# Altium schematic symbol library Capacitor_0805_5_percent.SchLib: 16 symbols
Pins are listed as number, name and electrical type; pins without a type are passive.

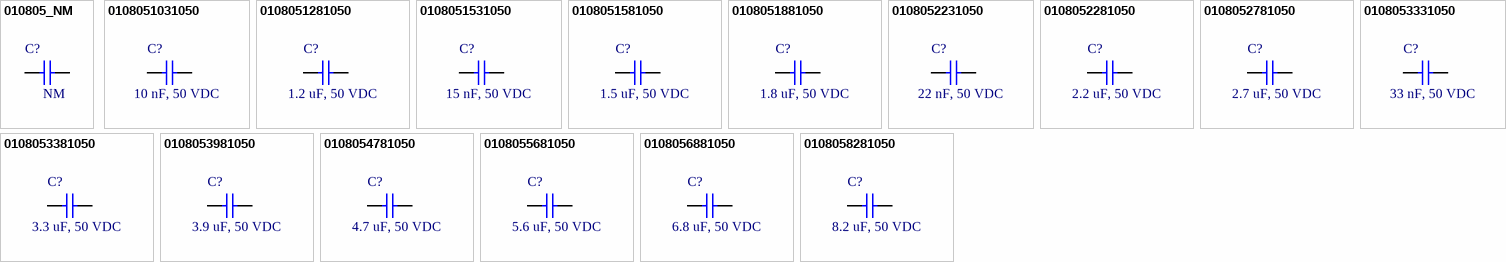
[diagram p0: symbols 010805_NM to 0108058281050]

## 010805_NM
designator C?, comment NM
CAP, size 0805, NM, N/A; Packaging: Tape and Reel; Capacitance: N/A; Supplier 1: Mouser; Supplier 1 Part Number: N/A; Supplier 1 URL: N/A; Supplier 2: Digi-Key; Supplier 2 Part Number: N/A; Supplier 2 URL: N/A; Supplier 3: thegioiic; Supplier 3 Part Number: N/A; Supplier 3 URL: N/A; Tolerance: N/A; Voltage Rating DC: N/A; Value: NM; Manufacturer: N/A; Manufacturer Part Number: N/A; ComponentLink1Description: Datasheet; ComponentLink1URL: N/A; Mount: SMD/SMT; Operating Temperature Max: + 85 C; Operating Temperature Min: - 40 C; Package / Case: 0805; LCSC Part #: N/A
footprint CAP_0805
pins: 1, 2

## 0108051031050
designator C?, comment 10 nF, 50 VDC
CAP, size 0805, 10 nF, 50 VDC, 5%; Manufacturer: TDK; Manufacturer Part Number: CGA4C2C0G1H103J060AA; Capacitance: 10 nF; Tolerance: +/-5%; Voltage Rating DC: 50 VDC; Value: 10 nF; Packaging: Tape and Reel; Supplier 1: Mouser; Supplier 1 Part Number: 810-CGA4C2C0G1H103J; Supplier 1 URL: https://www.mouser.vn/ProductDetail/TDK/CGA4C2C0G1H103J060AA?qs=FxQuwy19cyC9M6v0nMqjhA%3D%3D&utm_source=mouser-refine-download&utm_medium=file&utm_campaign=CGA4C2C0G1H103J060AA&utm_content=TDK; Supplier 2: Digi-Key; Supplier 2 Part Number: 445-6947-2-ND; Supplier 2 URL: https://www.digikey.com/en/products/detail/tdk-corporation/cga4c2c0g1h103j060aa/2672840; Supplier 3: thegioiic; Supplier 3 Part Number: OEM; Supplier 3 URL: N/A; ComponentLink1Description: Datasheet; ComponentLink1URL: https://product.tdk.com/system/files/dam/doc/product/capacitor/ceramic/mlcc/catalog/mlcc_automotive_general_en.pdf?ref_disty=mouser; Mount: SMD/SMT; Operating Temperature Max: + 85 C; Operating Temperature Min: - 40 C; Package / Case: 0805; LCSC Part #: C527201
footprint CAP_0805
simulation model C_Capacitor_Default (Model Description)
signal-integrity model Model Name (Model Description)
pins: 1, 2

## 0108051281050
designator C?, comment 1.2 uF, 50 VDC
CAP, size 0805, 1.2 uF, 50 VDC, 5%; Manufacturer: TDK; Manufacturer Part Number: CGA4C2C0G1H122J060AA; Capacitance: 1.2 uF; Tolerance: +/-5%; Voltage Rating DC: 50 VDC; Value: 1.2 uF; Packaging: Tape and Reel; Supplier 1: Mouser; Supplier 1 Part Number: 810-CGA4C2C0G1H122JA; Supplier 1 URL: https://www.mouser.vn/ProductDetail/TDK/CGA4C2C0G1H122J060AA?qs=xLDY6iXSiQZfM38MYXQGOQ%3D%3D&utm_source=mouser-refine-download&utm_medium=file&utm_campaign=CGA4C2C0G1H122J060AA&utm_content=TDK; Supplier 2: Digi-Key; Supplier 2 Part Number: 445-12614-2-ND; Supplier 2 URL: https://www.digikey.com/en/products/detail/tdk-corporation/cga4c2c0g1h122j060aa/3949850; Supplier 3: thegioiic; Supplier 3 Part Number: OEM; Supplier 3 URL: N/A; ComponentLink1Description: Datasheet; ComponentLink1URL: https://product.tdk.com/system/files/dam/doc/product/capacitor/ceramic/mlcc/catalog/mlcc_automotive_general_en.pdf?ref_disty=mouser; Mount: SMD/SMT; Operating Temperature Max: + 85 C; Operating Temperature Min: - 40 C; Package / Case: 0805
footprint CAP_0805
simulation model C_Capacitor_Default (Model Description)
signal-integrity model Model Name (Model Description)
pins: 1, 2

## 0108051531050
designator C?, comment 15 nF, 50 VDC
CAP, size 0805, 15 nF, 50 VDC, 5%; Manufacturer: TDK; Manufacturer Part Number: CGA4F2NP01H153J085AA; Capacitance: 15 nF; Tolerance: +/-5%; Voltage Rating DC: 50 VDC; Value: 15 nF; Packaging: Tape and Reel; Supplier 1: Mouser; Supplier 1 Part Number: 810-CGA4F2NP01H153JA; Supplier 1 URL: https://www.mouser.vn/ProductDetail/TDK/CGA4F2NP01H153J085AA?qs=xLDY6iXSiQbFHNeB91aULg%3D%3D&utm_source=mouser-refine-download&utm_medium=file&utm_campaign=CGA4F2NP01H153J085AA&utm_content=TDK; Supplier 2: Digi-Key; Supplier 2 Part Number: 445-12627-2-ND; Supplier 2 URL: https://www.digikey.com/en/products/detail/tdk-corporation/cga4f2np01h153j085aa/3949863; Supplier 3: thegioiic; Supplier 3 Part Number: OEM; Supplier 3 URL: N/A; ComponentLink1Description: Datasheet; ComponentLink1URL: https://product.tdk.com/system/files/dam/doc/product/capacitor/ceramic/mlcc/catalog/mlcc_automotive_hightemp_en.pdf?ref_disty=mouser; Mount: SMD/SMT; Operating Temperature Max: + 85 C; Operating Temperature Min: - 40 C; Package / Case: 0805
footprint CAP_0805
simulation model C_Capacitor_Default (Model Description)
signal-integrity model Model Name (Model Description)
pins: 1, 2

## 0108051581050
designator C?, comment 1.5 uF, 50 VDC
CAP, size 0805, 1.5 uF, 50 VDC, 5%; Manufacturer: TDK; Manufacturer Part Number: CGA4C2C0G1H152J060AA; Capacitance: 1.5 uF; Tolerance: +/-5%; Voltage Rating DC: 50 VDC; Value: 1.5 uF; Packaging: Tape and Reel; Supplier 1: Mouser; Supplier 1 Part Number: 810-CGA4C2C0G1H152JA; Supplier 1 URL: https://www.mouser.vn/ProductDetail/TDK/CGA4C2C0G1H152J060AA?qs=xLDY6iXSiQY%252BsteeFjMAwQ%3D%3D&utm_source=mouser-refine-download&utm_medium=file&utm_campaign=CGA4C2C0G1H152J060AA&utm_content=TDK; Supplier 2: Digi-Key; Supplier 2 Part Number: 445-12615-2-ND; Supplier 2 URL: https://www.digikey.com/en/products/detail/tdk-corporation/cga4c2c0g1h152j060aa/3949851; Supplier 3: thegioiic; Supplier 3 Part Number: OEM; Supplier 3 URL: N/A; ComponentLink1Description: Datasheet; ComponentLink1URL: https://product.tdk.com/system/files/dam/doc/product/capacitor/ceramic/mlcc/catalog/mlcc_automotive_general_en.pdf?ref_disty=mouser; Mount: SMD/SMT; Operating Temperature Max: + 85 C; Operating Temperature Min: - 40 C; Package / Case: 0805
footprint CAP_0805
simulation model C_Capacitor_Default (Model Description)
signal-integrity model Model Name (Model Description)
pins: 1, 2

## 0108051881050
designator C?, comment 1.8 uF, 50 VDC
CAP, size 0805, 1.8 uF, 50 VDC, 5%; Manufacturer: TDK; Manufacturer Part Number: CGA4C2C0G1H182J060AA; Capacitance: 1.8 uF; Tolerance: +/-5%; Voltage Rating DC: 50 VDC; Value: 1.8 uF; Packaging: Tape and Reel; Supplier 1: Mouser; Supplier 1 Part Number: 810-CGA4C2C0G1H182JA; Supplier 1 URL: https://www.mouser.vn/ProductDetail/TDK/CGA4C2C0G1H182J060AA?qs=xLDY6iXSiQZ5Wh3caYDeRA%3D%3D&utm_source=mouser-refine-download&utm_medium=file&utm_campaign=CGA4C2C0G1H182J060AA&utm_content=TDK; Supplier 2: Digi-Key; Supplier 2 Part Number: 445-12616-2-ND; Supplier 2 URL: https://www.digikey.com/en/products/detail/tdk-corporation/cga4c2c0g1h182j060aa/3949852; Supplier 3: thegioiic; Supplier 3 Part Number: OEM; Supplier 3 URL: N/A; ComponentLink1Description: Datasheet; ComponentLink1URL: https://product.tdk.com/system/files/dam/doc/product/capacitor/ceramic/mlcc/catalog/mlcc_automotive_general_en.pdf?ref_disty=mouser; Mount: SMD/SMT; Operating Temperature Max: + 85 C; Operating Temperature Min: - 40 C; Package / Case: 0805
footprint CAP_0805
simulation model C_Capacitor_Default (Model Description)
signal-integrity model Model Name (Model Description)
pins: 1, 2

## 0108052231050
designator C?, comment 22 nF, 50 VDC
CAP, size 0805, 22 nF, 50 VDC, 5%; Manufacturer: TDK; Manufacturer Part Number: CGA4J2C0G1H223J125AA; Capacitance: 22 nF; Tolerance: +/-5%; Voltage Rating DC: 50 VDC; Value: 22 nF; Packaging: Tape and Reel; Supplier 1: Mouser; Supplier 1 Part Number: 810-CGA4J2C0G1H223J; Supplier 1 URL: https://www.mouser.vn/ProductDetail/TDK/CGA4J2C0G1H223J125AA?qs=NRhsANhppD%252B%2Fmt276RAXag%3D%3D&utm_source=mouser-refine-download&utm_medium=file&utm_campaign=CGA4J2C0G1H223J125AA&utm_content=TDK; Supplier 2: Digi-Key; Supplier 2 Part Number: 445-6949-2-ND; Supplier 2 URL: https://www.digikey.com/en/products/detail/tdk-corporation/cga4j2c0g1h223j125aa/2672842; Supplier 3: thegioiic; Supplier 3 Part Number: OEM; Supplier 3 URL: N/A; ComponentLink1Description: Datasheet; ComponentLink1URL: https://product.tdk.com/system/files/dam/doc/product/capacitor/ceramic/mlcc/catalog/mlcc_automotive_general_en.pdf?ref_disty=mouser; Mount: SMD/SMT; Operating Temperature Max: + 85 C; Operating Temperature Min: - 40 C; Package / Case: 0805
footprint CAP_0805
simulation model C_Capacitor_Default (Model Description)
signal-integrity model Model Name (Model Description)
pins: 1, 2

## 0108052281050
designator C?, comment 2.2 uF, 50 VDC
CAP, size 0805, 2.2 uF, 50 VDC, 5%; Manufacturer: TDK; Manufacturer Part Number: CGA4C2C0G1H222J060AA; Capacitance: 2.2 uF; Tolerance: +/-5%; Voltage Rating DC: 50 VDC; Value: 2.2 uF; Packaging: Tape and Reel; Supplier 1: Mouser; Supplier 1 Part Number: 810-CGA4C2C0G1H222J; Supplier 1 URL: https://www.mouser.vn/ProductDetail/TDK/CGA4C2C0G1H222J060AA?qs=FxQuwy19cyBuFwn29Pt%2FRg%3D%3D&utm_source=mouser-refine-download&utm_medium=file&utm_campaign=CGA4C2C0G1H222J060AA&utm_content=TDK; Supplier 2: Digi-Key; Supplier 2 Part Number: 445-6941-2-ND; Supplier 2 URL: https://www.digikey.com/en/products/detail/tdk-corporation/cga4c2c0g1h222j060aa/2672834; Supplier 3: thegioiic; Supplier 3 Part Number: OEM; Supplier 3 URL: N/A; ComponentLink1Description: Datasheet; ComponentLink1URL: https://product.tdk.com/system/files/dam/doc/product/capacitor/ceramic/mlcc/catalog/mlcc_automotive_general_en.pdf?ref_disty=mouser; Mount: SMD/SMT; Operating Temperature Max: + 85 C; Operating Temperature Min: - 40 C; Package / Case: 0805
footprint CAP_0805
simulation model C_Capacitor_Default (Model Description)
signal-integrity model Model Name (Model Description)
pins: 1, 2

## 0108052781050
designator C?, comment 2.7 uF, 50 VDC
CAP, size 0805, 2.7 uF, 50 VDC, 5%; Manufacturer: TDK; Manufacturer Part Number: CGA4C2C0G1H272J060AA; Capacitance: 2.7 uF; Tolerance: +/-5%; Voltage Rating DC: 50 VDC; Value: 2.7 uF; Packaging: Tape and Reel; Supplier 1: Mouser; Supplier 1 Part Number: 810-CGA4C2C0G1H272J; Supplier 1 URL: https://www.mouser.vn/ProductDetail/TDK/CGA4C2C0G1H272J060AA?qs=FxQuwy19cyDK2SI%2FAkg0pQ%3D%3D&utm_source=mouser-refine-download&utm_medium=file&utm_campaign=CGA4C2C0G1H272J060AA&utm_content=TDK; Supplier 2: Digi-Key; Supplier 2 Part Number: 445-5674-2-ND; Supplier 2 URL: https://www.digikey.com/en/products/detail/tdk-corporation/cga4c2c0g1h272j060aa/2443152; Supplier 3: thegioiic; Supplier 3 Part Number: OEM; Supplier 3 URL: N/A; ComponentLink1Description: Datasheet; ComponentLink1URL: https://product.tdk.com/system/files/dam/doc/product/capacitor/ceramic/mlcc/catalog/mlcc_automotive_general_en.pdf?ref_disty=mouser; Mount: SMD/SMT; Operating Temperature Max: + 85 C; Operating Temperature Min: - 40 C; Package / Case: 0805
footprint CAP_0805
simulation model C_Capacitor_Default (Model Description)
signal-integrity model Model Name (Model Description)
pins: 1, 2

## 0108053331050
designator C?, comment 33 nF, 50 VDC
CAP, size 0805, 33 nF, 50 VDC, 5%; Manufacturer: TDK; Manufacturer Part Number: CGA4J2C0G1H333J125AA; Capacitance: 33 nF; Tolerance: +/-5%; Voltage Rating DC: 50 VDC; Value: 33 nF; Packaging: Tape and Reel; Supplier 1: Mouser; Supplier 1 Part Number: 810-CGA4J2C0G1H333J; Supplier 1 URL: https://www.mouser.vn/ProductDetail/TDK/CGA4J2C0G1H333J125AA?qs=FxQuwy19cyA3MDBBAaLhVw%3D%3D&utm_source=mouser-refine-download&utm_medium=file&utm_campaign=CGA4J2C0G1H333J125AA&utm_content=TDK; Supplier 2: Digi-Key; Supplier 2 Part Number: 445-6950-2-ND; Supplier 2 URL: https://www.digikey.com/en/products/detail/tdk-corporation/cga4j2c0g1h333j125aa/2672843; Supplier 3: thegioiic; Supplier 3 Part Number: OEM; Supplier 3 URL: N/A; ComponentLink1Description: Datasheet; ComponentLink1URL: https://product.tdk.com/system/files/dam/doc/product/capacitor/ceramic/mlcc/catalog/mlcc_automotive_general_en.pdf?ref_disty=mouser; Mount: SMD/SMT; Operating Temperature Max: + 85 C; Operating Temperature Min: - 40 C; Package / Case: 0805
footprint CAP_0805
simulation model C_Capacitor_Default (Model Description)
signal-integrity model Model Name (Model Description)
pins: 1, 2

## 0108053381050
designator C?, comment 3.3 uF, 50 VDC
CAP, size 0805, 3.3 uF, 50 VDC, 5%; Manufacturer: TDK; Manufacturer Part Number: CGA4C2NP01H332J060AA; Capacitance: 3.3 uF; Tolerance: +/-5%; Voltage Rating DC: 50 VDC; Value: 3.3 uF; Packaging: Tape and Reel; Supplier 1: Mouser; Supplier 1 Part Number: 810-CGA4C2NP01H332JA; Supplier 1 URL: https://www.mouser.vn/ProductDetail/TDK/CGA4C2NP01H332J060AA?qs=xLDY6iXSiQZMdiLchQlKQQ%3D%3D&utm_source=mouser-refine-download&utm_medium=file&utm_campaign=CGA4C2NP01H332J060AA&utm_content=TDK; Supplier 2: Digi-Key; Supplier 2 Part Number: 445-12631-2-ND; Supplier 2 URL: https://www.digikey.com/en/products/detail/tdk-corporation/cga4c2np01h332j060aa/3949867; Supplier 3: thegioiic; Supplier 3 Part Number: OEM; Supplier 3 URL: N/A; ComponentLink1Description: Datasheet; ComponentLink1URL: https://product.tdk.com/system/files/dam/doc/product/capacitor/ceramic/mlcc/catalog/mlcc_automotive_hightemp_en.pdf?ref_disty=mouser; Mount: SMD/SMT; Operating Temperature Max: + 85 C; Operating Temperature Min: - 40 C; Package / Case: 0805
footprint CAP_0805
simulation model C_Capacitor_Default (Model Description)
signal-integrity model Model Name (Model Description)
pins: 1, 2

## 0108053981050
designator C?, comment 3.9 uF, 50 VDC
CAP, size 0805, 3.9 uF, 50 VDC, 5%; Manufacturer: TDK; Manufacturer Part Number: CGA4C2C0G1H392J060AA; Capacitance: 3.9 uF; Tolerance: +/-5%; Voltage Rating DC: 50 VDC; Value: 3.9 uF; Packaging: Tape and Reel; Supplier 1: Mouser; Supplier 1 Part Number: 810-CGA4C2C0G1H392J; Supplier 1 URL: https://www.mouser.vn/ProductDetail/TDK/CGA4C2C0G1H392J060AA?qs=FxQuwy19cyB31xuSDAF8VQ%3D%3D&utm_source=mouser-refine-download&utm_medium=file&utm_campaign=CGA4C2C0G1H392J060AA&utm_content=TDK; Supplier 2: Digi-Key; Supplier 2 Part Number: 445-6942-2-ND; Supplier 2 URL: https://www.digikey.com/en/products/detail/tdk-corporation/cga4c2c0g1h392j060aa/2672835; Supplier 3: thegioiic; Supplier 3 Part Number: OEM; Supplier 3 URL: N/A; ComponentLink1Description: Datasheet; ComponentLink1URL: https://product.tdk.com/system/files/dam/doc/product/capacitor/ceramic/mlcc/catalog/mlcc_automotive_general_en.pdf?ref_disty=mouser; Mount: SMD/SMT; Operating Temperature Max: + 85 C; Operating Temperature Min: - 40 C; Package / Case: 0805
footprint CAP_0805
simulation model C_Capacitor_Default (Model Description)
signal-integrity model Model Name (Model Description)
pins: 1, 2

## 0108054781050
designator C?, comment 4.7 uF, 50 VDC
CAP, size 0805, 4.7 uF, 50 VDC, 5%; Manufacturer: TDK; Manufacturer Part Number: CGA4C2C0G1H472J060AA; Capacitance: 4.7 uF; Tolerance: +/-5%; Voltage Rating DC: 50 VDC; Value: 4.7 uF; Packaging: Tape and Reel; Supplier 1: Mouser; Supplier 1 Part Number: 810-CGA4C2C0G1H472J; Supplier 1 URL: https://www.mouser.vn/ProductDetail/TDK/CGA4C2C0G1H472J060AA?qs=FxQuwy19cyCgdYzJw5%252BHfA%3D%3D&utm_source=mouser-refine-download&utm_medium=file&utm_campaign=CGA4C2C0G1H472J060AA&utm_content=TDK; Supplier 2: Digi-Key; Supplier 2 Part Number: 445-6943-2-ND; Supplier 2 URL: https://www.digikey.com/en/products/detail/tdk-corporation/cga4c2c0g1h472j060aa/2672836; Supplier 3: thegioiic; Supplier 3 Part Number: OEM; Supplier 3 URL: N/A; ComponentLink1Description: Datasheet; ComponentLink1URL: https://product.tdk.com/system/files/dam/doc/product/capacitor/ceramic/mlcc/catalog/mlcc_automotive_general_en.pdf?ref_disty=mouser; Mount: SMD/SMT; Operating Temperature Max: + 85 C; Operating Temperature Min: - 40 C; Package / Case: 0805
footprint CAP_0805
simulation model C_Capacitor_Default (Model Description)
signal-integrity model Model Name (Model Description)
pins: 1, 2

## 0108055681050
designator C?, comment 5.6 uF, 50 VDC
CAP, size 0805, 5.6 uF, 50 VDC, 5%; Manufacturer: TDK; Manufacturer Part Number: CGA4C2C0G1H562J060AA; Capacitance: 5.6 uF; Tolerance: +/-5%; Voltage Rating DC: 50 VDC; Value: 5.6 uF; Packaging: Tape and Reel; Supplier 1: Mouser; Supplier 1 Part Number: 810-CGA4C2C0G1H562J; Supplier 1 URL: https://www.mouser.vn/ProductDetail/TDK/CGA4C2C0G1H562J060AA?qs=FxQuwy19cyCva2gwHgnsuw%3D%3D&utm_source=mouser-refine-download&utm_medium=file&utm_campaign=CGA4C2C0G1H562J060AA&utm_content=TDK; Supplier 2: Digi-Key; Supplier 2 Part Number: 445-6944-2-ND; Supplier 2 URL: https://www.digikey.com/en/products/detail/tdk-corporation/cga4c2c0g1h562j060aa/2672837; Supplier 3: thegioiic; Supplier 3 Part Number: OEM; Supplier 3 URL: N/A; ComponentLink1Description: Datasheet; ComponentLink1URL: https://product.tdk.com/system/files/dam/doc/product/capacitor/ceramic/mlcc/catalog/mlcc_automotive_general_en.pdf?ref_disty=mouser; Mount: SMD/SMT; Operating Temperature Max: + 85 C; Operating Temperature Min: - 40 C; Package / Case: 0805
footprint CAP_0805
simulation model C_Capacitor_Default (Model Description)
signal-integrity model Model Name (Model Description)
pins: 1, 2

## 0108056881050
designator C?, comment 6.8 uF, 50 VDC
CAP, size 0805, 6.8 uF, 50 VDC, 5%; Manufacturer: TDK; Manufacturer Part Number: CGA4C2NP01H682J060AA; Capacitance: 6.8 uF; Tolerance: +/-5%; Voltage Rating DC: 50 VDC; Value: 6.8 uF; Packaging: Tape and Reel; Supplier 1: Mouser; Supplier 1 Part Number: 810-CGA4C2NP01H682JA; Supplier 1 URL: https://www.mouser.vn/ProductDetail/TDK/CGA4C2NP01H682J060AA?qs=xLDY6iXSiQaMapGZq4seYg%3D%3D&utm_source=mouser-refine-download&utm_medium=file&utm_campaign=CGA4C2NP01H682J060AA&utm_content=TDK; Supplier 2: Digi-Key; Supplier 2 Part Number: 445-12635-2-ND; Supplier 2 URL: https://www.digikey.com/en/products/detail/tdk-corporation/cga4c2np01h682j060aa/3949871; Supplier 3: thegioiic; Supplier 3 Part Number: OEM; Supplier 3 URL: N/A; ComponentLink1Description: Datasheet; ComponentLink1URL: https://product.tdk.com/system/files/dam/doc/product/capacitor/ceramic/mlcc/catalog/mlcc_automotive_hightemp_en.pdf?ref_disty=mouser; Mount: SMD/SMT; Operating Temperature Max: + 85 C; Operating Temperature Min: - 40 C; Package / Case: 0805
footprint CAP_0805
simulation model C_Capacitor_Default (Model Description)
signal-integrity model Model Name (Model Description)
pins: 1, 2

## 0108058281050
designator C?, comment 8.2 uF, 50 VDC
CAP, size 0805, 8.2 uF, 50 VDC, 5%; Manufacturer: TDK; Manufacturer Part Number: CGA4C2C0G1H822J060AA; Capacitance: 8.2 uF; Tolerance: +/-5%; Voltage Rating DC: 50 VDC; Value: 8.2 uF; Packaging: Tape and Reel; Supplier 1: Mouser; Supplier 1 Part Number: 810-CGA4C2C0G1H822J; Supplier 1 URL: https://www.mouser.vn/ProductDetail/TDK/CGA4C2C0G1H822J060AA?qs=FxQuwy19cyAK0jQ6P5l0pQ%3D%3D&utm_source=mouser-refine-download&utm_medium=file&utm_campaign=CGA4C2C0G1H822J060AA&utm_content=TDK; Supplier 2: Digi-Key; Supplier 2 Part Number: 445-6946-2-ND; Supplier 2 URL: https://www.digikey.com/en/products/detail/tdk-corporation/cga4c2c0g1h822j060aa/2672839; Supplier 3: thegioiic; Supplier 3 Part Number: OEM; Supplier 3 URL: N/A; ComponentLink1Description: Datasheet; ComponentLink1URL: https://product.tdk.com/system/files/dam/doc/product/capacitor/ceramic/mlcc/catalog/mlcc_automotive_general_en.pdf?ref_disty=mouser; Mount: SMD/SMT; Operating Temperature Max: + 85 C; Operating Temperature Min: - 40 C; Package / Case: 0805
footprint CAP_0805
simulation model C_Capacitor_Default (Model Description)
signal-integrity model Model Name (Model Description)
pins: 1, 2